# EAGLE library part PCA (library DROIDLIRARY)
Using only two pins, control 16 free-running PWM outputs! You can even chain up 62 breakouts to control up to 992 PWM outputs. It’s an i2c-controlled PWM driver with a built in clock. That means that, unlike the TLC5940 family, you do not need to continuously send it signal tying up your microcontroller, its completely free running! It is 5V compliant, which means you can control it from a 3.3V microcontroller and still safely drive up to 6V outputs (this is good for when you want to control white or blue LEDs with 3.4 forward voltages) 6 address select pins so you can wire up to 62 of these on a single i2c bus, a total of 992 outputs – that’s a lot of servos or LEDs Adjustable frequency PWM up to about 1.6 KHz 12-bit resolution for each output – for servos, that means about 4us resolution at 60Hz update rate Configurable push-pull or open-drain output Output enable pin to quickly disable all the outputs
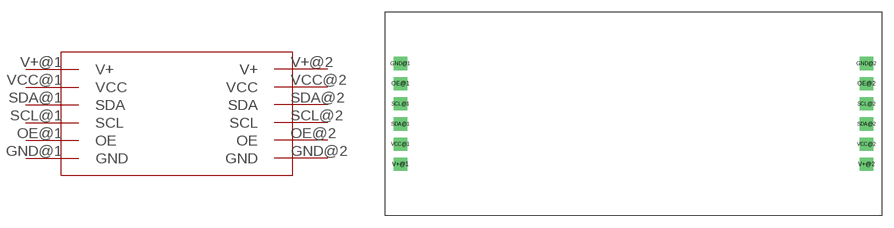
[diagram p4: symbol with the pads of PCA_P; footprint PCA_P]

Designator prefix -

## PCA  [PCA_P]
GND@1  GND
GND@2  GND
OE@1  OE
OE@2  OE
SCL@1  SCL
SCL@2  SCL
SDA@1  SDA
SDA@2  SDA
V+@1  V+
V+@2  V+
VCC@1  VCC
VCC@2  VCC

## Footprint PCA_P (pad centres in mm)
drill 1 pad 1.676 square: GND@1 -29.35,6.35; GND@2 29.35,6.35; OE@1 -29.35,3.81; OE@2 29.35,3.81; SCL@1 -29.35,1.27; SCL@2 29.35,1.27; SDA@1 -29.35,-1.27; SDA@2 29.35,-1.27; V+@1 -29.35,-6.35; V+@2 29.35,-6.35; VCC@1 -29.35,-3.81; VCC@2 29.35,-3.81